# Altium footprint library Mos_ROHM_RSJ250P10FRATL_25A.PcbLib: 1 footprints
Each footprint in its own frame and in the unit in brackets; x right, y up, seen from the top. Pads: shape width x height; smd on the part's side, far side on the other; paste and mask are expansions set on the pad; w line width, h text height; cw(c..) or ccw(c..) is an arc to the next point about the centre after c.
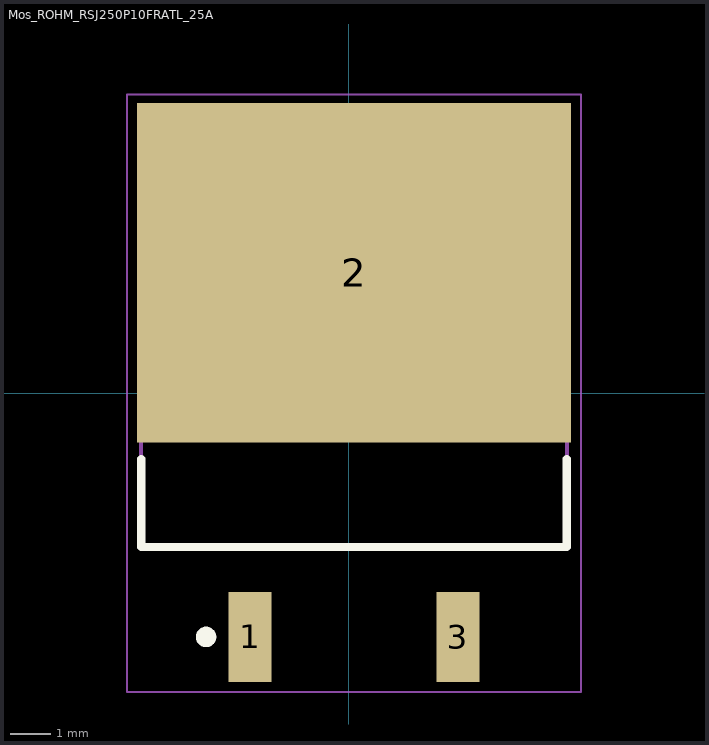
[diagram p0: the footprint, top view; thin cyan lines are the x and y axes]

## Mos_ROHM_RSJ250P10FRATL_25A [mm]
pads (3):
  rect 1.05x2.2 smd: 1(-2.413,-5.95) 3(2.667,-5.95)
  rect 10.6x8.3 smd paste+0: 2(0.127,2.95)
Top Overlay:
  circle w0.25: c-3.488,-5.95 r0.125
  lines w0.2: -5.073,-1.6 -5.073,-3.75 5.327,-3.75 5.327,-1.6
Mechanical 13:
  lines w0.1: -5.073,-3.75 5.327,-3.75 5.327,5.45 -5.073,5.45 -5.073,-3.75
Mechanical 15:
  lines w0.05: -5.423,-7.3 5.677,-7.3 5.677,7.3 -5.423,7.3 -5.423,-7.3
  lines w0.1: -0.373,0 0.627,0 ; 0.127,-0.5 0.127,0.5
3D body "DPAK254P1310X430-3N.step": height 4.55, standoff 0, extent -5.073,-6.05 5.327,7.05